# EAGLE library part SIMBLEE-7PIN-DIP (library jos-ph)
SIMBLEE 7-pin DIP breakout
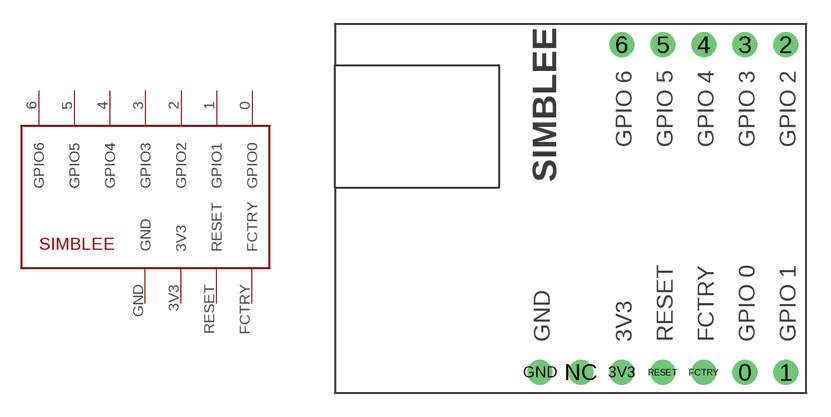
[diagram p7: symbol with the pads of SIMBLEE-7PIN-DIP; footprint SIMBLEE-7PIN-DIP]

Designator prefix -

## SIMBLEE-7PIN-DIP  [SIMBLEE-7PIN-DIP]
0  GPIO0
1  GPIO1
2  GPIO2
3  GPIO3
3V3  3V3
4  GPIO4
5  GPIO5
6  GPIO6
FCTRY  FCTRY
GND  GND
RESET  RESET

## Footprint SIMBLEE-7PIN-DIP (pad centres in mm)
SIMBLEE 7PIN DIP BREAKOUT --- https://www.simblee.com/
drill 1.016: 0 10.16,-10.16; 1 12.7,-10.16; 2 12.7,10.16; 3 10.16,10.16; 3V3 2.54,-10.16; 4 7.62,10.16; 5 5.08,10.16; 6 2.54,10.16; FCTRY 7.62,-10.16; GND -2.54,-10.16; NC 0,-10.16; RESET 5.08,-10.16